# EAGLE library part BMP085 (library Stofer)
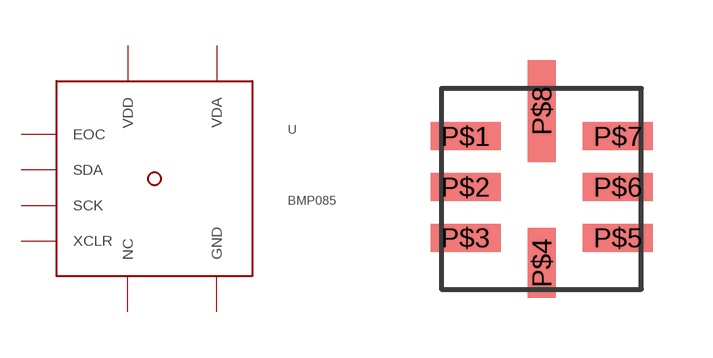
[diagram p15: symbol with the pads of LCC8; footprint LCC8]

Designator prefix -

## BMP085  [LCC8]
P$1  GND  pwr
P$2  EOC  out
P$3  VDA  pwr
P$4  VDD  pwr
P$5  NC  nc
P$6  SCK  in
P$7  SDA
P$8  XCLR  in

## Footprint LCC8 (pad centres in mm)
smd 1.75 x 0.7: P$1 0,0; P$2 0,-1.27; P$3 0,-2.54; P$5 3.81,-2.54; P$6 3.81,-1.27; P$7 3.81,0
smd 0.7 x 1.75: P$4 1.905,-3.175
smd 0.7 x 2.55: P$8 1.905,0.635